# Altium schematic symbol library Schlib1.SchLib: 1 symbol
Pins are listed as number, name and electrical type; pins without a type are passive.

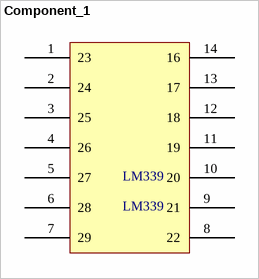
[diagram p0: symbol Component_1]

## Component_1
designator LM339, comment LM339
pins: 1 23 "OUT2", 2 24, 3 25, 4 26, 5 27, 6 28, 7 29, 8 22, 9 21, 10 20, 11 19, 12 18, 13 17, 14 16